# Altium footprint library Connectors.PcbLib: 14 footprints
Each footprint in its own frame and in the unit in brackets; x right, y up, seen from the top. Pads: shape width x height; smd on the part's side, far side on the other; paste and mask are expansions set on the pad; w line width, h text height; cw(c..) or ccw(c..) is an arc to the next point about the centre after c.
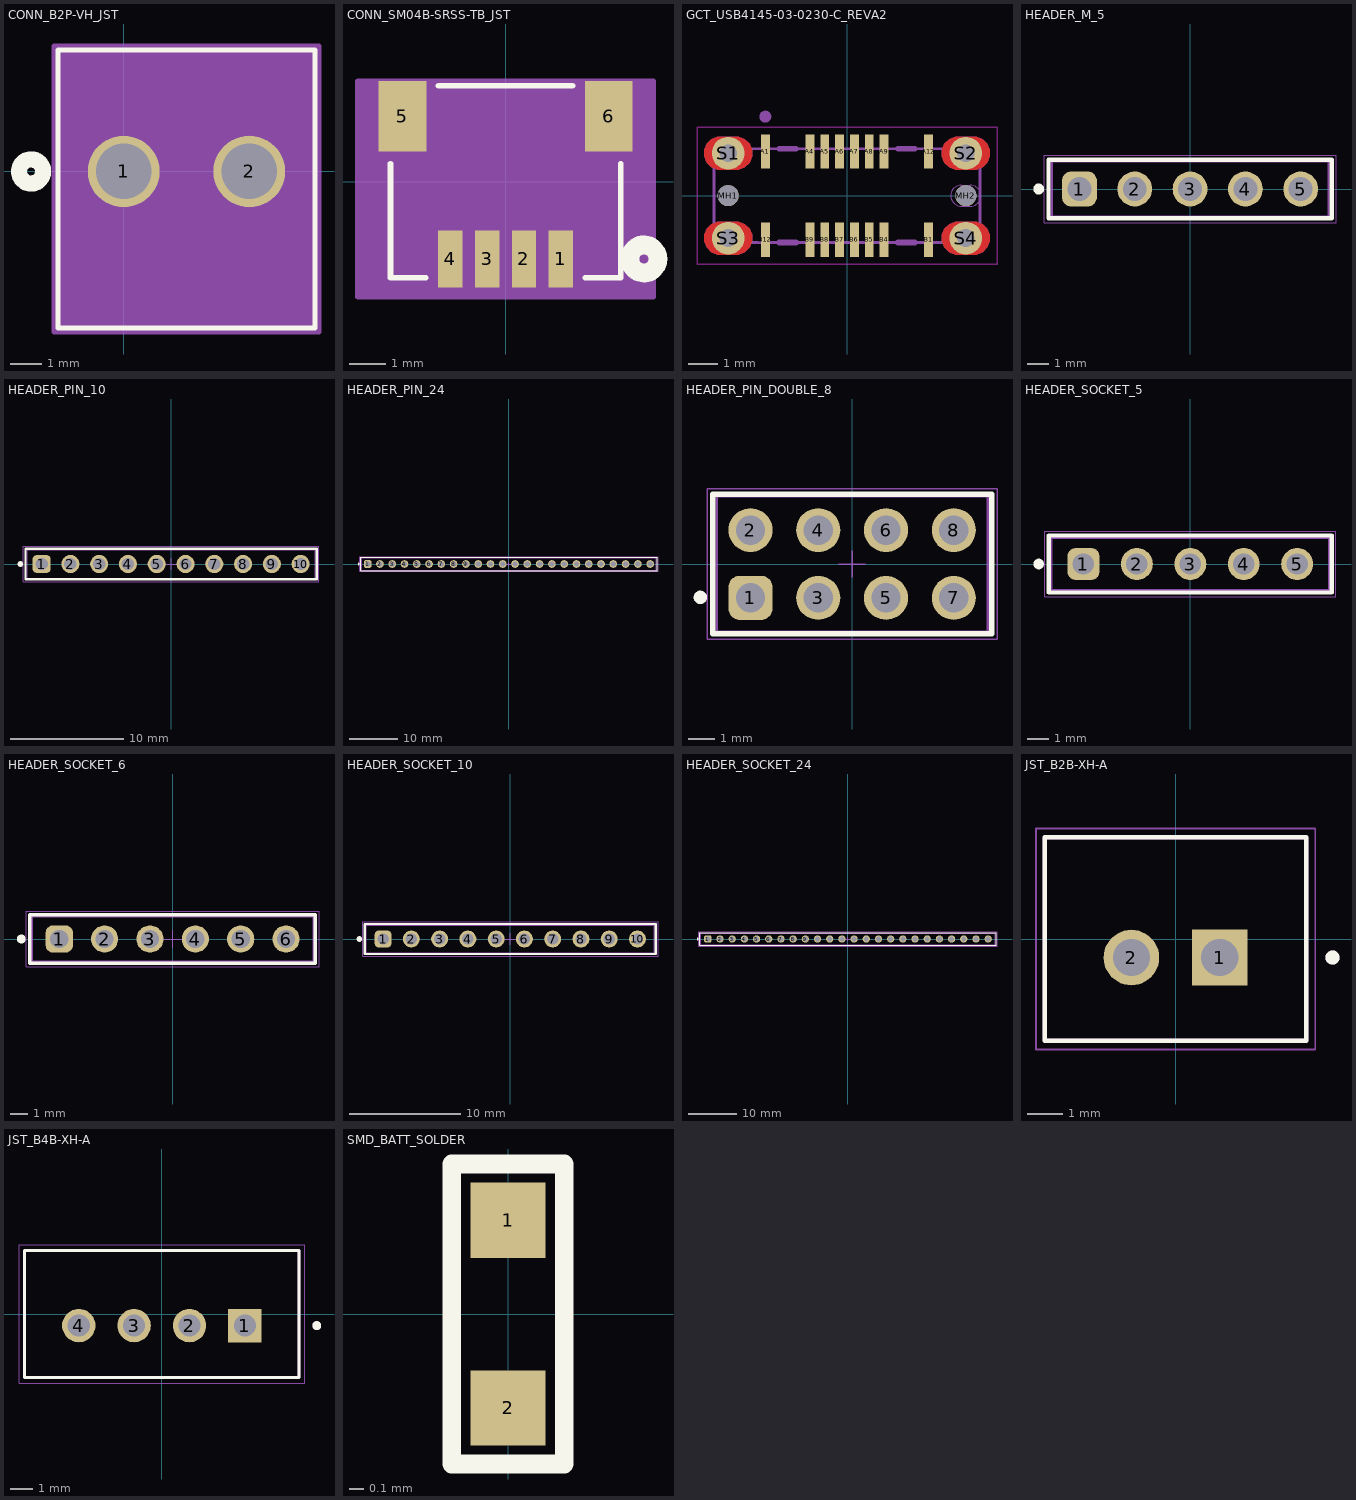
[diagram p0: the footprints below, top view; thin cyan lines are the x and y axes]

## CONN_B2P-VH_JST [mil]
pads (2):
  round 89 / inner round 60 / far side round 89 hole 69 paste-44.5 mask+0: 1(0,0) 2(155.91,0)
Top Overlay:
  circle w20: c-115,0 r15
  lines w6: -81.55,-194.33 237.45,-194.33 237.45,150.67 -81.55,150.67 -81.55,-194.33
Mechanical 13:
  lines w1: -76.55,-189.33 232.45,-189.33 232.45,145.67 -76.55,145.67 -76.55,-189.33
Mechanical 15:
  region: 242.45,155.67 -86.55,155.67 -86.55,-199.33 242.45,-199.33
  lines w6: -86.55,-199.33 -86.55,155.67 242.45,155.67 242.45,-199.33 -86.55,-199.33
3D body "B2P-VH.STEP": height 429.13, standoff -145.67, extent -79.45,-182.32 230,152.32

## CONN_SM04B-SRSS-TB_JST [mil]
pads (6):
  rect 26x61 smd paste+0 mask+0: 1(59.06,-82.62) 2(19.68,-82.62) 3(-19.68,-82.62) 4(-59.06,-82.62)
  rect 51x75 smd paste-37.5 mask-37.5: 5(-110.24,69.94) 6(110.24,69.94)
Top Overlay:
  circle w20: c148,-82.62 r15
  lines w6: -123,19.34 -123,-102.5 -85.16,-102.5 ; -71.64,102.5 71.64,102.5 ; 85.16,-102.5 123,-102.5 123,19.34
Bottom Overlay:
  circle w20: c148,-82.62 r15
Mechanical 13:
  lines w1: -118,-97.5 -118,97.5 118,97.5 118,-97.5 -118,-97.5
Mechanical 15:
  region: 157.74,107.5 -157.74,107.5 -157.74,-123.12 157.74,-123.12
  lines w6: -157.74,-123.12 157.74,-123.12 157.74,107.5 -157.74,107.5 -157.74,-123.12
3D body "SM04B-SRSS-TB.STEP": height 128.15, standoff 11.61, extent -118.11,-116.51 118.11,78.35

## GCT_USB4145-03-0230-C_REVA2 [mm]
pads (22):
  rect 0.3x1.15 smd: A1(-2.75,1.485) A4(-1.25,1.485) A5(-0.75,1.485) A6(-0.25,1.485) A7(0.25,1.485) A8(0.75,1.485) A9(1.25,1.485) A12(2.75,1.485) B1(2.75,-1.485) B4(1.25,-1.485) B5(0.75,-1.485) B6(0.25,-1.485) B7(-0.25,-1.485) B8(-0.75,-1.485) B9(-1.25,-1.485) B12(-2.75,-1.485)
  round 0.71 hole 0.71 unplated: MH1(-4,0) MH2(4,0)
  round 1.1 hole 0.6: S1(-4,1.43) S2(4,1.43) S3(-4,-1.43) S4(4,-1.43)
Top Layer:
  region: -4.805,1.43 -4.805,1.54 -4.721,1.744 -4.564,1.9 -4.36,1.985 -4.25,1.985 -3.75,1.985 -3.64,1.985 -3.436,1.9 -3.279,1.744 -3.195,1.54 -3.195,1.43 -3.195,1.32 -3.279,1.116 -3.436,0.96 -3.64,0.875 -3.75,0.875 -4.25,0.875 -4.36,0.875 -4.564,0.96 -4.721,1.116 -4.805,1.32
  region: 3.195,1.43 3.195,1.54 3.279,1.744 3.436,1.9 3.64,1.985 3.75,1.985 4.25,1.985 4.36,1.985 4.564,1.9 4.721,1.744 4.805,1.54 4.805,1.43 4.805,1.32 4.721,1.116 4.564,0.96 4.36,0.875 4.25,0.875 3.75,0.875 3.64,0.875 3.436,0.96 3.279,1.116 3.195,1.32
  region: -4.805,-1.43 -4.805,-1.32 -4.721,-1.116 -4.564,-0.96 -4.36,-0.875 -4.25,-0.875 -3.75,-0.875 -3.64,-0.875 -3.436,-0.96 -3.279,-1.116 -3.195,-1.32 -3.195,-1.43 -3.195,-1.54 -3.279,-1.744 -3.436,-1.9 -3.64,-1.985 -3.75,-1.985 -4.25,-1.985 -4.36,-1.985 -4.564,-1.9 -4.721,-1.744 -4.805,-1.54
  region: 3.195,-1.43 3.195,-1.32 3.279,-1.116 3.436,-0.96 3.64,-0.875 3.75,-0.875 4.25,-0.875 4.36,-0.875 4.564,-0.96 4.721,-1.116 4.805,-1.32 4.805,-1.43 4.805,-1.54 4.721,-1.744 4.564,-1.9 4.36,-1.985 4.25,-1.985 3.75,-1.985 3.64,-1.985 3.436,-1.9 3.279,-1.744 3.195,-1.54
Top Layer keep-out:
  lines w0.05: -5.05,-2.31 -5.05,2.31 5.05,2.31 5.05,-2.31 -5.05,-2.31
Bottom Layer:
  region: -4.805,1.43 -4.805,1.54 -4.721,1.744 -4.564,1.9 -4.36,1.985 -4.25,1.985 -3.75,1.985 -3.64,1.985 -3.436,1.9 -3.279,1.744 -3.195,1.54 -3.195,1.43 -3.195,1.32 -3.279,1.116 -3.436,0.96 -3.64,0.875 -3.75,0.875 -4.25,0.875 -4.36,0.875 -4.564,0.96 -4.721,1.116 -4.805,1.32
  region: 3.195,1.43 3.195,1.54 3.279,1.744 3.436,1.9 3.64,1.985 3.75,1.985 4.25,1.985 4.36,1.985 4.564,1.9 4.721,1.744 4.805,1.54 4.805,1.43 4.805,1.32 4.721,1.116 4.564,0.96 4.36,0.875 4.25,0.875 3.75,0.875 3.64,0.875 3.436,0.96 3.279,1.116 3.195,1.32
  region: -4.805,-1.43 -4.805,-1.32 -4.721,-1.116 -4.564,-0.96 -4.36,-0.875 -4.25,-0.875 -3.75,-0.875 -3.64,-0.875 -3.436,-0.96 -3.279,-1.116 -3.195,-1.32 -3.195,-1.43 -3.195,-1.54 -3.279,-1.744 -3.436,-1.9 -3.64,-1.985 -3.75,-1.985 -4.25,-1.985 -4.36,-1.985 -4.564,-1.9 -4.721,-1.744 -4.805,-1.54
  region: 3.195,-1.43 3.195,-1.32 3.279,-1.116 3.436,-0.96 3.64,-0.875 3.75,-0.875 4.25,-0.875 4.36,-0.875 4.564,-0.96 4.721,-1.116 4.805,-1.32 4.805,-1.43 4.805,-1.54 4.721,-1.744 4.564,-1.9 4.36,-1.985 4.25,-1.985 3.75,-1.985 3.64,-1.985 3.436,-1.9 3.279,-1.744 3.195,-1.54
Top Solder:
  drawing of 4 lines, arcs and shapes, not listed
Bottom Solder:
  drawing of 4 lines, arcs and shapes, not listed
Mechanical 2:
  lines w0: -4.55,-1.43 cw(c-4.25,-1.43) -4.25,-1.13 -3.75,-1.13 cw(c-3.75,-1.43) -3.45,-1.43 cw(c-3.75,-1.43) -3.75,-1.73 -4.25,-1.73 cw(c-4.25,-1.43) -4.55,-1.43 ; -4.55,1.43 cw(c-4.25,1.43) -4.25,1.73 -3.75,1.73 cw(c-3.75,1.43) -3.45,1.43 cw(c-3.75,1.43) -3.75,1.13 -4.25,1.13 cw(c-4.25,1.43) -4.55,1.43 ; 3.45,-1.43 cw(c3.75,-1.43) 3.75,-1.13 4.25,-1.13 cw(c4.25,-1.43) 4.55,-1.43 cw(c4.25,-1.43) 4.25,-1.73 3.75,-1.73 cw(c3.75,-1.43) 3.45,-1.43 ; 3.45,1.43 cw(c3.75,1.43) 3.75,1.73 4.25,1.73 cw(c4.25,1.43) 4.55,1.43 cw(c4.25,1.43) 4.25,1.13 3.75,1.13 cw(c3.75,1.43) 3.45,1.43 ; 3.495,0 ccw(c3.85,0) 3.85,-0.355 4.15,-0.355 ccw(c4.15,0) 4.505,0 ccw(c4.15,0) 4.15,0.355 3.85,0.355 ccw(c3.85,0) 3.495,0
Mechanical 3:
  circle w0.2: c-2.75,2.66 r0.1
  lines w0.1: -4.47,-1.58 -4.47,1.58 4.47,1.58 4.47,-1.58 -4.47,-1.58
Mechanical 7:
  circle w0.2: c-2.75,2.66 r0.1
  lines w0.2: -2.28,-1.58 -1.72,-1.58 ; -2.28,1.58 -1.72,1.58 ; 1.72,-1.58 2.28,-1.58 ; 1.72,1.58 2.28,1.58
3D body "usb4145-03-0230-c.stp": height 7.46, standoff -2.3, extent -4.475,-1.805 4.47,1.885

## HEADER_M_5 [mm] "Pin Header, pitch 2.54 mm, THT, Vertical, single row, 5p"
height 8.54
pads (5):
  rrect50% 1.6x1.6 hole 1.1: 1(-5.08,0)
  round 1.6 hole 1.1: 2(-2.54,0) 3(0,0) 4(2.54,0) 5(5.08,0)
Top Overlay:
  circle w0.25: c-6.95,0 r0.125
  lines w0.2: -6.5,-1.345 6.5,-1.345 6.5,1.345 -6.5,1.345 -6.5,-1.345
Top Courtyard:
  lines w0.05: -6.7,-1.545 -6.7,1.545 6.7,1.545 6.7,-1.545 -6.7,-1.545
Top Designator:
  text ".Designator" at -7.498,-0.5 h1.5
Top Component Outline:
  lines w0.1: -6.35,-1.27 -6.35,1.27 6.35,1.27 6.35,-1.27 -6.35,-1.27
Top Component Center:
  lines w0.05: -0.5,0 0.5,0 ; 0,-0.5 0,0.5
3D body "61300511121.stp": height 8.57, standoff -2.97, extent -6.35,-1.27 6.35,1.27

## HEADER_PIN_10 [mm] "Pin Header, pitch 2.54 mm, THT, Vertical, single row, 10p"
height 8.54
pads (10):
  rrect50% 1.6x1.6 hole 1.1: 1(-11.43,0)
  round 1.6 hole 1.1: 2(-8.89,0) 3(-6.35,0) 4(-3.81,0) 5(-1.27,0) 6(1.27,0) 7(3.81,0) 8(6.35,0) 9(8.89,0) 10(11.43,0)
Top Overlay:
  circle w0.25: c-13.3,0 r0.125
  lines w0.2: -12.85,-1.345 -12.85,1.345 12.85,1.345 12.85,-1.345 -12.85,-1.345
Top Courtyard:
  lines w0.05: -13.05,-1.545 13.05,-1.545 13.05,1.545 -13.05,1.545 -13.05,-1.545
Top Designator:
  text ".Designator" at -7.498,-0.5 h1.5
Top Component Outline:
  lines w0.1: -12.7,-1.27 12.7,-1.27 12.7,1.27 -12.7,1.27 -12.7,-1.27
Top Component Center:
  lines w0.05: -0.5,0 0.5,0 ; 0,-0.5 0,0.5
3D body "61301011121.stp": height 8.57, standoff -2.97, extent -12.7,-1.27 12.7,1.27

## HEADER_PIN_24 [mm] "Pin Header, pitch 2.54 mm, THT, Vertical, single row, 24p"
height 8.54
pads (24):
  rrect50% 1.6x1.6 hole 1.1: 1(-29.21,0)
  round 1.6 hole 1.1: 2(-26.67,0) 3(-24.13,0) 4(-21.59,0) 5(-19.05,0) 6(-16.51,0) 7(-13.97,0) 8(-11.43,0) 9(-8.89,0) 10(-6.35,0) 11(-3.81,0) 12(-1.27,0) 13(1.27,0) 14(3.81,0) 15(6.35,0) 16(8.89,0) 17(11.43,0) 18(13.97,0) 19(16.51,0) 20(19.05,0) 21(21.59,0) 22(24.13,0) 23(26.67,0) 24(29.21,0)
Top Overlay:
  circle w0.25: c-31.08,0 r0.125
  lines w0.2: -30.63,-1.345 30.63,-1.345 30.63,1.345 -30.63,1.345 -30.63,-1.345
Top Courtyard:
  lines w0.05: -30.83,-1.545 -30.83,1.545 30.83,1.545 30.83,-1.545 -30.83,-1.545
Top Designator:
  text ".Designator" at -7.498,-0.5 h1.5
Top Component Outline:
  lines w0.1: -30.48,-1.27 30.48,-1.27 30.48,1.27 -30.48,1.27 -30.48,-1.27
Top Component Center:
  lines w0.05: -0.5,0 0.5,0 ; 0,-0.5 0,0.5
3D body "61302411121.stp": height 8.57, standoff -2.97, extent -30.48,-1.27 30.48,1.27

## HEADER_PIN_DOUBLE_8 [mm] "Pin Header, pitch 2.54 mm, THT, Vertical, dual row, 8p"
height 8.54
pads (8):
  rrect50% 1.65x1.65 hole 1.1: 1(-3.81,-1.27)
  round 1.65 hole 1.1: 2(-3.81,1.27) 3(-1.27,-1.27) 4(-1.27,1.27) 5(1.27,-1.27) 6(1.27,1.27) 7(3.81,-1.27) 8(3.81,1.27)
Top Overlay:
  circle w0.25: c-5.69,-1.25 r0.125
  lines w0.2: -5.23,-2.615 5.23,-2.615 5.23,2.615 -5.23,2.615 -5.23,-2.615
Top Courtyard:
  lines w0.05: -5.43,-2.815 -5.43,2.815 5.43,2.815 5.43,-2.815 -5.43,-2.815
Top Component Outline:
  lines w0.1: -5.08,-2.54 5.08,-2.54 5.08,2.54 -5.08,2.54 -5.08,-2.54
Top Component Center:
  lines w0.05: -0.5,0 0.5,0 ; 0,-0.5 0,0.5
3D body "61300821121.stp": height 8.59, standoff -2.95, extent -5.08,-2.54 5.08,2.54

## HEADER_SOCKET_5 [mm] "Socket Header, Pitch 2.54 mm, THT, Vertical, single row, 5p"
height 8.5
pads (5):
  rrect50% 1.52x1.52 hole 1.02: 1(-5.08,0)
  round 1.52 hole 1.02: 2(-2.54,0) 3(0,0) 4(2.54,0) 5(5.08,0)
Top Overlay:
  circle w0.25: c-7.21,0 r0.125
  lines w0.2: -6.725,-1.35 -6.725,1.35 6.725,1.35 6.725,-1.35 -6.725,-1.35
Top Courtyard:
  lines w0.05: -6.925,-1.55 -6.925,1.55 6.925,1.55 6.925,-1.55 -6.925,-1.55
Top Designator:
  text ".Designator" at -7.498,-0.5 h1.5
Top Component Outline:
  lines w0.1: -6.6,-1.25 -6.6,1.25 6.6,1.25 6.6,-1.25 -6.6,-1.25
Top Component Center:
  lines w0.05: -0.5,0 0.5,0 ; 0,-0.5 0,0.5
3D body "61300511821.stp": height 8.55, standoff -3.06, extent -6.6,-1.25 6.6,1.25

## HEADER_SOCKET_6 [mm] "Socket Header, Pitch 2.54 mm, THT, Vertical, single row, 6p"
height 8.5
pads (6):
  rrect50% 1.52x1.52 hole 1.02: 1(-6.35,0)
  round 1.52 hole 1.02: 2(-3.81,0) 3(-1.27,0) 4(1.27,0) 5(3.81,0) 6(6.35,0)
Top Overlay:
  circle w0.25: c-8.48,0 r0.125
  lines w0.2: -7.995,-1.35 7.995,-1.35 7.995,1.35 -7.995,1.35 -7.995,-1.35
Top Courtyard:
  lines w0.05: -8.195,-1.55 8.195,-1.55 8.195,1.55 -8.195,1.55 -8.195,-1.55
Top Designator:
  text ".Designator" at -7.498,-0.5 h1.5
Top Component Outline:
  lines w0.1: -7.87,-1.25 7.87,-1.25 7.87,1.25 -7.87,1.25 -7.87,-1.25
Top Component Center:
  lines w0.05: -0.5,0 0.5,0 ; 0,-0.5 0,0.5
3D body "61300611821.stp": height 8.55, standoff -3.06, extent -7.87,-1.25 7.87,1.25

## HEADER_SOCKET_10 [mm] "Socket Header, Pitch 2.54 mm, THT, Vertical, single row, 10p"
height 8.5
pads (10):
  rrect50% 1.52x1.52 hole 1.02: 1(-11.43,0)
  round 1.52 hole 1.02: 2(-8.89,0) 3(-6.35,0) 4(-3.81,0) 5(-1.27,0) 6(1.27,0) 7(3.81,0) 8(6.35,0) 9(8.89,0) 10(11.43,0)
Top Overlay:
  circle w0.25: c-13.56,0 r0.125
  lines w0.2: -13.075,-1.35 13.075,-1.35 13.075,1.35 -13.075,1.35 -13.075,-1.35
Top Courtyard:
  lines w0.05: -13.275,-1.55 13.275,-1.55 13.275,1.55 -13.275,1.55 -13.275,-1.55
Top Component Outline:
  lines w0.1: -12.95,-1.25 12.95,-1.25 12.95,1.25 -12.95,1.25 -12.95,-1.25
Top Component Center:
  lines w0.05: -0.5,0 0.5,0 ; 0,-0.5 0,0.5
3D body "61301011821.stp": height 8.55, standoff -3.06, extent -12.95,-1.25 12.95,1.25

## HEADER_SOCKET_24 [mm] "Socket Header, Pitch 2.54 mm, THT, Vertical, single row, 24p"
height 8.5
pads (24):
  rrect50% 1.52x1.52 hole 1.02: 1(-29.21,0)
  round 1.52 hole 1.02: 2(-26.67,0) 3(-24.13,0) 4(-21.59,0) 5(-19.05,0) 6(-16.51,0) 7(-13.97,0) 8(-11.43,0) 9(-8.89,0) 10(-6.35,0) 11(-3.81,0) 12(-1.27,0) 13(1.27,0) 14(3.81,0) 15(6.35,0) 16(8.89,0) 17(11.43,0) 18(13.97,0) 19(16.51,0) 20(19.05,0) 21(21.59,0) 22(24.13,0) 23(26.67,0) 24(29.21,0)
Top Overlay:
  circle w0.25: c-31.34,0 r0.125
  lines w0.2: -30.855,-1.35 -30.855,1.35 30.855,1.35 30.855,-1.35 -30.855,-1.35
Top Courtyard:
  lines w0.05: -31.055,-1.55 -31.055,1.55 31.055,1.55 31.055,-1.55 -31.055,-1.55
Top Designator:
  text ".Designator" at -7.498,-0.5 h1.5
Top Component Outline:
  lines w0.1: -30.73,-1.25 -30.73,1.25 30.73,1.25 30.73,-1.25 -30.73,-1.25
Top Component Center:
  lines w0.05: -0.5,0 0.5,0 ; 0,-0.5 0,0.5
3D body "61302411821.stp": height 8.55, standoff -3.06, extent -30.73,-1.25 30.73,1.25

## JST_B2B-XH-A [mm]
height 7
pads (2):
  rect 1.575x1.575 / inner round 1.575 / far side rect 1.575x1.575 hole 1.05: 1(1.25,-0.525)
  round 1.575 hole 1.05: 2(-1.25,-0.525)
Top Overlay:
  circle w0.2: c4.44,-0.525 r0.1
  lines w0.127: -3.7,-2.875 3.7,-2.875 3.7,2.875 -3.7,2.875 -3.7,-2.875
Mechanical 13:
  circle w0.2: c4.44,-0.525 r0.1
  lines w0.127: -3.7,-2.875 3.7,-2.875 3.7,2.875 -3.7,2.875 -3.7,-2.875
Mechanical 15:
  lines w0.05: -3.95,-3.125 -3.95,3.125 3.95,3.125 3.95,-3.125 -3.95,-3.125

## JST_B4B-XH-A [mm]
height 7
pads (4):
  rect 1.508x1.508 / inner round 1.508 / far side rect 1.508x1.508 hole 1: 1(3.75,-0.525)
  round 1.508 hole 1: 2(1.25,-0.525) 3(-1.25,-0.525) 4(-3.75,-0.525)
Top Overlay:
  circle w0.2: c7,-0.525 r0.1
  lines w0.127: -6.2,-2.875 -6.2,2.875 6.2,2.875 6.2,-2.875 -6.2,-2.875
Mechanical 13:
  circle w0.2: c7,-0.525 r0.1
  lines w0.127: -6.2,-2.875 -6.2,2.875 6.2,2.875 6.2,-2.875 -6.2,-2.875
Mechanical 15:
  lines w0.05: -6.45,-3.125 -6.45,3.125 6.45,3.125 6.45,-3.125 -6.45,-3.125
3D body "step_temp.STEP": height 7, standoff -3.4, extent -6.2,-2.875 6.2,2.875

## SMD_BATT_SOLDER [mil]
pads (2):
  rect 20x20 smd: 1(0,25) 2(0,-25)
Top Overlay:
  lines w5: -15,-40 -15,40 15,40 15,-40 -15,-40